# EAGLE library part LEISTUNGSSCHALTER_4-POL (library e-schalter)
Leistungsschalter 4. pol.
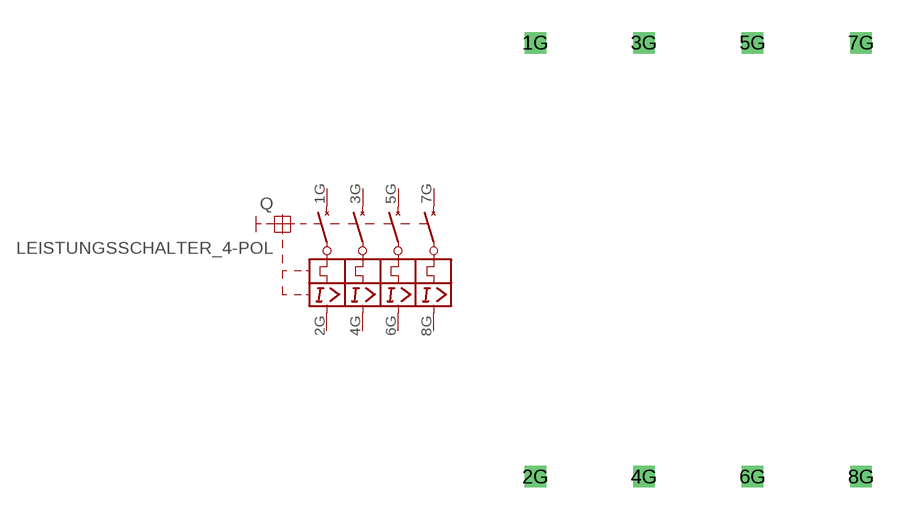
[diagram p13: symbol with the pads of LEISTUNGSSCHALTER_4-POL; footprint LEISTUNGSSCHALTER_4-POL]

Designator prefix Q

## LEISTUNGSSCHALTER_4-POL  [LEISTUNGSSCHALTER_4-POL]
1G  1  pas
2G  2  pas
3G  3  pas
4G  4  pas
5G  5  pas
6G  6  pas
7G  7  pas
8G  8  pas

## Footprint LEISTUNGSSCHALTER_4-POL (pad centres in mm)
Dummy
drill 0.5 pad 1 square: 1G -5.08,2.54; 2G -5.08,-17.78; 3G 0,2.54; 4G 0,-17.78; 5G 5.08,2.54; 6G 5.08,-17.78; 7G 10.16,2.54; 8G 10.16,-17.78